# Altium schematic symbol library EL817(S1)(C)(TU)-VG.SchLib: 1 symbol
Pins are listed as number, name and electrical type; pins without a type are passive.

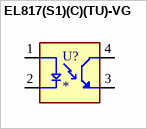
[diagram p0: symbol EL817(S1)(C)(TU)-VG]

## EL817(S1)(C)(TU)-VG
designator U?
Optoisolator Transistor Output 5000Vrms 1 Channel 4-SMD; MF: Everlight Electronics; MP: EL817(S1)(A)(TU)-VG; SnapEDA_Link: https://www.snapeda.com/parts/EL817(S1)(A)(TU)-VG/Everlight/view-part/?ref=snap; Package: NON STANDARD-4 Everlight; Value: *; Check_prices: https://www.snapeda.com/parts/EL817(S1)(A)(TU)-VG/Everlight/view-part/?ref=eda
footprint SOIC254P1030X390-4N_EL817(S1)(C)(TU)-VG
pins: 1 A, 2 C, 3 ET, 4 CT